# Altium footprint library PCB - CONNECTOR - JAE - JAE MX34016NF1.PcbLib: 1 footprints
Each footprint in its own frame and in the unit in brackets; x right, y up, seen from the top. Pads: shape width x height; smd on the part's side, far side on the other; paste and mask are expansions set on the pad; w line width, h text height; cw(c..) or ccw(c..) is an arc to the next point about the centre after c.
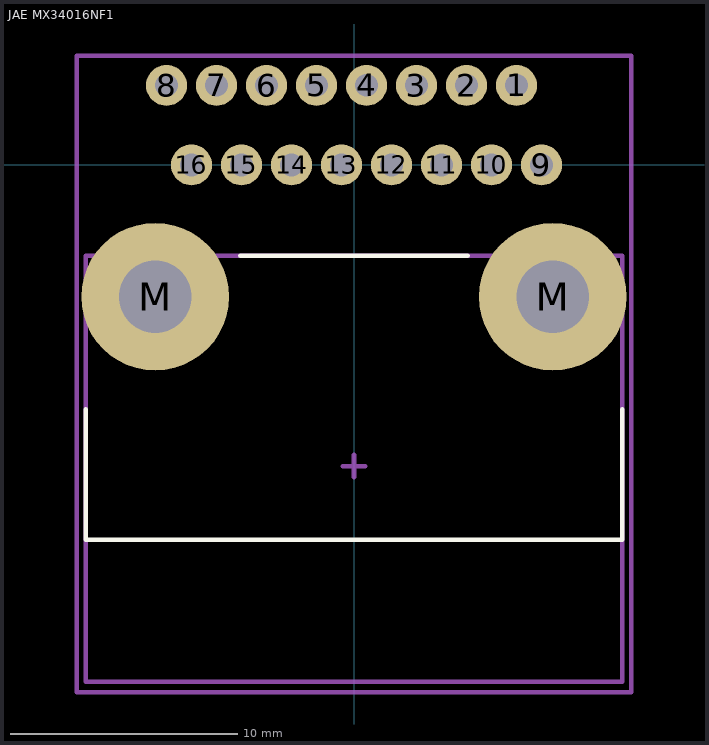
[diagram p0: the footprint, top view; thin cyan lines are the x and y axes]

## JAE MX34016NF1 [mm] "Compact non-waterproof automotive connector, High-density, ECU, switches, and sensors, 16 pos. Right angle Pin header"
height 16.4
pads (18):
  round 1.8 hole 1: 1(7.15,3.5) 2(4.95,3.5) 3(2.75,3.5) 4(0.55,3.5) 5(-1.65,3.5) 6(-3.85,3.5) 7(-6.05,3.5) 8(-8.25,3.5) 9(8.25,0) 10(6.05,0) 11(3.85,0) 12(1.65,0) 13(-0.55,0) 14(-2.75,0) 15(-4.95,0) 16(-7.15,0)
  round 6.5 hole 3.2: M(-8.75,-5.8) M(8.75,-5.8)
Top Overlay:
  lines w0.2: -11.8,-10.75 -11.8,-16.5 11.8,-16.5 11.8,-10.75 ; -5,-4 5,-4
Top Assembly:
  lines w0.2: -0.5,-13.25 0.5,-13.25 ; 0,-13.75 0,-12.75 ; -11.8,-22.75 11.8,-22.75 11.8,-4 -11.8,-4 -11.8,-22.75
Top Courtyard (Mech15):
  lines w0.2: -12.2,-23.2 -12.2,4.8 12.2,4.8 12.2,-23.2 -12.2,-23.2
3D body "JAE MX34016NF1.step": height 16, standoff -3.2, extent -11.75,-22.7 11.75,3.82